# Altium footprint library TO-52.PcbLib: 1 footprints
Each footprint in its own frame and in the unit in brackets; x right, y up, seen from the top. Pads: shape width x height; smd on the part's side, far side on the other; paste and mask are expansions set on the pad; w line width, h text height; cw(c..) or ccw(c..) is an arc to the next point about the centre after c.
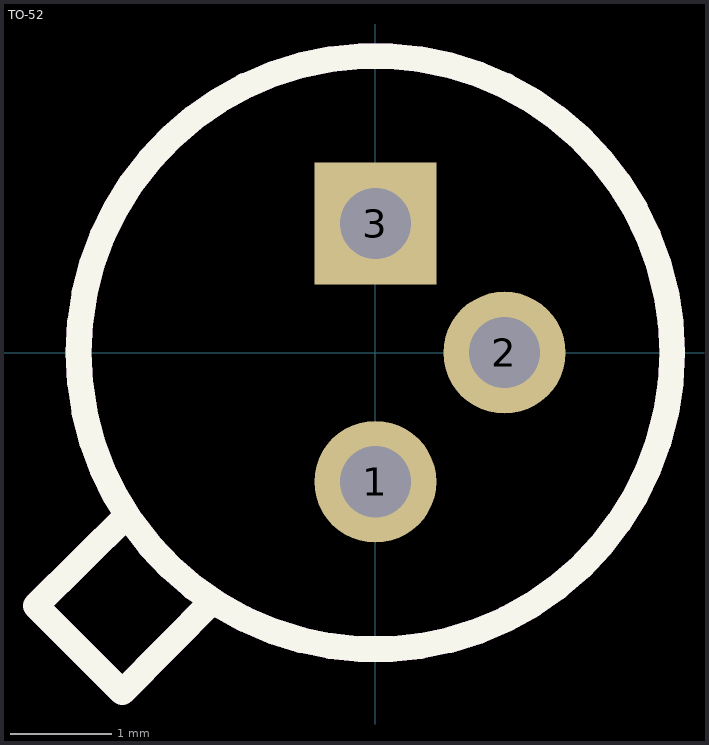
[diagram p0: the footprint, top view; thin cyan lines are the x and y axes]

## TO-52 [mm]
pads (3):
  round 1.2 hole 0.7 mask+0.051: 1(0,-1.27) 2(1.27,0)
  rect 1.2x1.2 hole 0.7 mask+0.051: 3(0,1.27)
Top Overlay:
  circle w0.254: c0,0 r2.92
  lines w0.254: -2.44,-1.6 -3.34,-2.49 -2.49,-3.34 -1.6,-2.44
Mechanical 13:
  circle w0.254: c0,0 r2.92
  lines w0.254: -2.44,-1.6 -3.34,-2.49 -2.49,-3.34 -1.6,-2.44